# EAGLE library part MOLEX_85793 (library Nick Firmani)
HYPERJACK 1000 BASE-T 1x1 MAGNETIC CONNECTOR
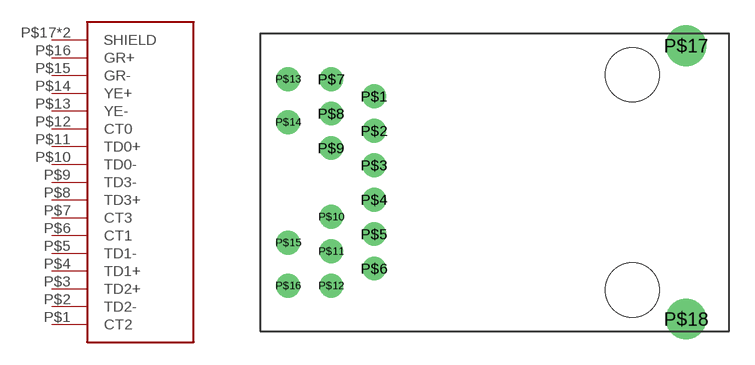
[diagram p4: symbol with the pads of MOLEX_85793-1006; footprint MOLEX_85793-1006]

Designator prefix -

## MOLEX_85793  [MOLEX_85793-1006]
P$1  CT2
P$2  TD2-
P$3  TD2+
P$4  TD1+
P$5  TD1-
P$6  CT1
P$7  CT3
P$8  TD3+
P$9  TD3-
P$10  TD0-
P$11  TD0+
P$12  CT0
P$13  YE-
P$14  YE+
P$15  GR-
P$16  GR+
P$17  SHIELD
P$18  SHIELD

## Footprint MOLEX_85793-1006 (pad centres in mm)
Part Number: 85793-1003 Gigabit Magnetic Jack, 1x1 LEDs: Green - Green/Orange
drill 0.9: P$1 -15.24,5.08; P$2 -15.24,3.048; P$3 -15.24,1.016; P$4 -15.24,-1.016; P$5 -15.24,-3.048; P$6 -15.24,-5.08; P$7 -17.78,6.096; P$8 -17.78,4.064; P$9 -17.78,2.032; P$10 -17.78,-2.032; P$11 -17.78,-4.064; P$12 -17.78,-6.096; P$13 -20.32,6.096; P$14 -20.32,3.556; P$15 -20.32,-3.556; P$16 -20.32,-6.096
drill 1.6: P$17 3.175,8.065; P$18 3.175,-8.065
hole 3.2 at 0,6.35
hole 3.2 at 0,-6.35